# Altium schematic symbol library MB1180_mod.SCHLIB: 44 symbols
Pins are listed as number, name and electrical type; pins without a type are passive.

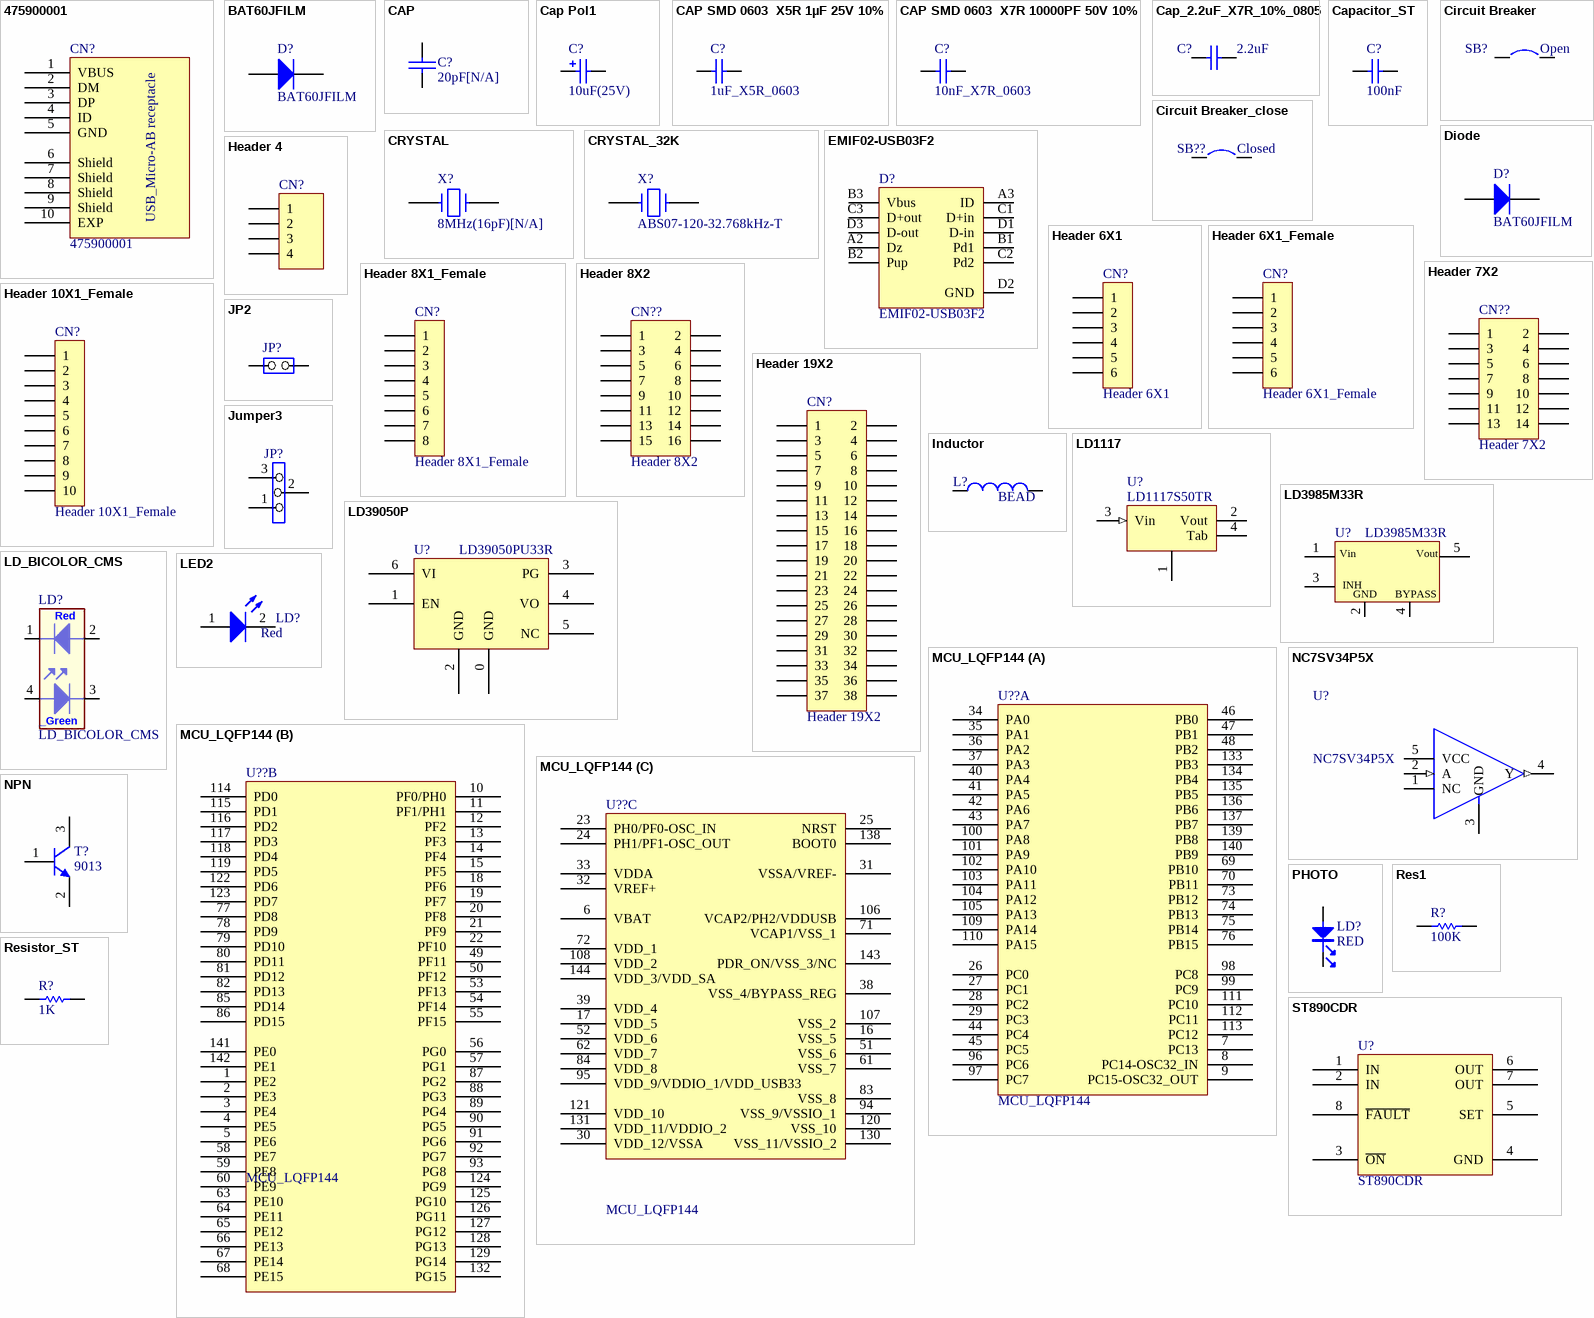
[diagram p0: symbols 475900001 to ST890CDR]

## 475900001
designator CN?
footprint Model Name (Footprint not found)
footprint MOLEX_47590001 (Footprint not found)
pins: 1 VBUS, 2 DM, 3 DP, 4 ID, 5 GND, 6 Shield, 7 Shield, 8 Shield, 9 Shield, 10 EXP
text: USB_Micro-AB receptacle

## BAT60JFILM
designator D?
Manuf_1: STM; Provided: ST; ECCN_US/EU: EAR99/NEC; Revision: July-2002: Re-released for DXP Platform.; Order: BAT60JFILM; Manuf_Part_1: BAT60JFILM; Distrib: ST
footprint DSO-C2/X3.3 (DO-214-AB/SMC; 2 C-Bend Leads; Body 7.9 x 5.9 mm, inc. leads (LxW))
simulation model DIODE (Diode)
signal-integrity model Diode
footprint SOD323/A
pins: 1 A, 2 K

## CAP
designator C?, comment 20pF[N/A]
Capacitor
footprint 0603 (Footprint not found)
footprint 0603C
pins: 1, 2
2 alternate drawings of the same symbol

## Cap Pol1
designator C?, comment 10uF(25V)
Polarized Capacitor (Radial); Published: 8-Jun-2000; Revision: July-2002: Re-released for DXP Platform.; Publisher: Altium Limited; Value: 10uF
simulation model CAP (Capacitor)
signal-integrity model C200M
footprint 3528 (Footprint not found)
footprint TAN-B
footprint TAN-A
pins: 1, 2

## CAP SMD 0603  X5R 1µF 25V 10%
designator C?, comment 1uF_X5R_0603
0603  X5R 1µF; Rated voltage: 25V; Tolerance: 10%; Manufacturer: *; Manufacturer P/N: *; Order code Farnell: 1288202RL; Value: 1µF; Power: *; Technology: X5R; Temperature  Factor: *; Temperature Max: +125°C; Temperature Min: -55°C; STS Code: *
footprint 0603C (Footprint not found)
3D model 0603_0_0000_R (PCB3D Model)
simulation model Capacitor
signal-integrity model Capacitor
pins: 1, 2

## CAP SMD 0603  X7R 10000PF 50V 10%
designator C?, comment 10nF_X7R_0603
0603  X7R 10NF; Order code RS: 2040779; Rated voltage: 50V; Tolerance: 10%; Order code Farnell: 7569548RL; Value: 10NF; Power: *; Technology: X7R; Temperature Factor: *; Temperature Min: -55°C; Temperature Max: +125°C; STS Code: *
footprint 0603C (Footprint not found)
3D model 0603_0_0000_R (PCB3D Model)
simulation model Capacitor
signal-integrity model Capacitor
pins: 1, 2

## Cap_2.2uF_X7R_10%_0805
designator C?, comment 2.2uF
Capacitor,2.2uF,16V, X7R,10%,0805,YAGEO; Manuf_Part_1: CC0805KKX7R7BB225; Revision: July-2002: Re-released for DXP Platform.; Value: 2.2uF; Order: CC0805KKX7R7BB225; Manuf_1: YAGEO
simulation model CAP (Capacitor)
signal-integrity model Cap
footprint 0805C
footprint TAN-A
pins: 1, 2

## Capacitor_ST
designator C?, comment 100nF
Capacitor 0402 / 0603 / 0805; Revision: July-2002: Re-released for DXP Platform.; Value: 100nF
simulation model CAP (Capacitor)
signal-integrity model Cap
footprint 0603C
footprint 0402C
footprint 0805C (Footprint not found)
pins: 1, 2

## Circuit Breaker
designator SB?, comment Open
Circuit Breaker; Published: 24-Mar-1999; Revision: July-2002: Re-released for DXP Platform.; Publisher: Altium Limited
footprint SPST-2 (Circuit Breaker; 2 Leads)
footprint JP2_SMD
footprint SB_0603 (Footprint not found)
pins: 1, 2

## Circuit Breaker_close
designator SB??, comment Closed
Circuit Breaker; Published: 24-Mar-1999; Revision: July-2002: Re-released for DXP Platform.; Publisher: Altium Limited
footprint SPST-2 (Circuit Breaker; 2 Leads)
footprint JP2_SMD
footprint SB_0603 (Footprint not found)
pins: 1, 2

## CRYSTAL
designator X?, comment 8MHz(16pF)[N/A]
Crystal
footprint XTAL1 (Footprint not found)
footprint XTAL_socket
pins: 1, 2
2 alternate drawings of the same symbol

## CRYSTAL_32K
designator X?, comment ABS07-120-32.768kHz-T
Crystal
footprint XTAL1 (Footprint not found)
footprint XTAL_2SM_3R2X1R5 (Footprint not found)
pins: 1, 2
2 alternate drawings of the same symbol

## Diode
designator D?, comment BAT60JFILM
Default Diode; Code - JEDEC: DO-214-AB; Ordered by: STM; ECCN_US/EU: EAR99/NEC; Published: 8-Jun-2000; Revision: July-2002: Re-released for DXP Platform.; Publisher: Altium Limited
footprint DSO-C2/X3.3 (DO-214-AB/SMC; 2 C-Bend Leads; Body 7.9 x 5.9 mm, inc. leads (LxW))
simulation model DIODE (Diode)
signal-integrity model Diode
footprint SOD-323
pins: 1 A, 2 K

## EMIF02-USB03F2
designator D?
footprint Flip Chip (Footprint not found)
footprint FlipChip(11)
footprint BGA11_0R5_1R57X2R07 (Footprint not found)
pins: A2 Dz, A3 ID, B1 Pd1, B2 Pup, B3 Vbus, C1 D+in, C2 Pd2, C3 D+out, D1 D-in, D2 GND, D3 D-out

## Header 4
designator CN?  (value not drawn)
Header, 4-Pin, Single row; Revision: 17-Jul-2002: Re-released for DXP Platform.; Publisher: Altium Limited
signal-integrity model Connector
footprint 1*4 (Footprint not found)
pins: 1, 2, 3, 4

## Header 6X1
designator CN?
Header, 6-Pin, Single row; LatestRevisionDate: 17-Jul-2002; LatestRevisionNote: Re-released for DXP Platform.; Publisher: Altium Limited
footprint HDR2X17 (Connector; Header; 17x2 Position)
signal-integrity model Connector
footprint 1*6P (Footprint not found)
pins: 1, 2, 3, 4, 5, 6

## Header 6X1_Female
designator CN?
Header, 6-Pin, Single row,female; LatestRevisionDate: 17-Jul-2002; LatestRevisionNote: Re-released for DXP Platform.; Publisher: Altium Limited
footprint HDR2X17 (Connector; Header; 17x2 Position)
signal-integrity model Connector
footprint 1*6P_FEMALE (Footprint not found)
pins: 1, 2, 3, 4, 5, 6

## Header 7X2
designator CN??
Header, 19-Pin, Dual row; Revision: 17-Jul-2002: Re-released for DXP Platform.; Publisher: Altium Limited
footprint 2*7P (Footprint not found)
signal-integrity model Connector
footprint HDR_2X26_2R54 (Footprint not found)
pins: 1, 2, 3, 4, 5, 6, 7, 8, 9, 10, 11, 12, 13, 14

## Header 8X1_Female
designator CN?
Header, 8-Pin, Single row,female; LatestRevisionDate: 17-Jul-2002; LatestRevisionNote: Re-released for DXP Platform.; Publisher: Altium Limited
footprint HDR2X17 (Connector; Header; 17x2 Position)
signal-integrity model Connector
footprint 1*8P_FEMALE (Footprint not found)
pins: 1, 2, 3, 4, 5, 6, 7, 8

## Header 8X2
designator CN??
Header, 19-Pin, Dual row; Revision: 17-Jul-2002: Re-released for DXP Platform.; Publisher: Altium Limited
footprint 2*8P (Footprint not found)
signal-integrity model Connector
footprint HDR_2X26_2R54 (Footprint not found)
pins: 1, 2, 3, 4, 5, 6, 7, 8, 9, 10, 11, 12, 13, 14, 15, 16

## Header 10X1_Female
designator CN?
Header, 10-Pin, Single row,female; LatestRevisionDate: 17-Jul-2002; LatestRevisionNote: Re-released for DXP Platform.; Publisher: Altium Limited
footprint HDR2X17 (Connector; Header; 17x2 Position)
signal-integrity model Connector
footprint 1*10P_FEMALE (Footprint not found)
pins: 1, 2, 3, 4, 5, 6, 7, 8, 9, 10

## Header 19X2
designator CN?
Header, 19-Pin, Dual row; Revision: 17-Jul-2002: Re-released for DXP Platform.; Publisher: Altium Limited
footprint 2*19P (Footprint not found)
signal-integrity model Connector
footprint HDR_2X26_2R54 (Footprint not found)
pins: 1, 2, 3, 4, 5, 6, 7, 8, 9, 10, 11, 12, 13, 14, 15, 16, 17, 18, 19, 20, 21, 22, 23, 24, 25, 26, 27, 28, 29, 30, 31, 32, 33, 34, 35, 36, 37, 38

## Inductor
designator L?, comment BEAD
Inductor; Value: 100uH; Published: 8-Jun-2000; Revision: July-2002: Re-released for DXP Platform.; Publisher: Altium Limited
footprint 0603 (Footprint not found)
footprint 0603C
footprint 0603L
pins: 1, 2

## JP2
designator JP?
footprint SIP2/2.54
pins: 1 COMMON, 2 NO

## Jumper3
designator JP?
footprint SIP3 (Footprint not found)
pins: 1, 2, 3

## LD1117
designator U?, comment LD1117S50TR
footprint SOT-223
pins: 1, 2 Vout (power), 3 Vin (in), 4 Tab (power)

## LD3985M33R
designator U?
Ultra low drop-low noise BiCMOS voltage, regulators low ESR capacitors compatible; Manuf_1: STM; Provided: ST; Ref St: 9176161; ECCN_US/EU: EAR99/NEC; Manuf_Part_1: LD3985M33R; Distrib: ST; Order: LD3985M33R
footprint SOT-23-5L
pins: 1 Vin, 2 GND, 3 CE, 4 BYPASS, 5 Vout
text: INH

## LD39050P
designator U?, comment LD39050PU33R
footprint DFN6
footprint DFN6(3X3)
pins: 0 GND, 1 EN, 2 GND, 3 PG, 4 VO, 5 NC, 6 VI

## LD_BICOLOR_CMS
designator LD?
Bicolor Led; Manuf_Part_1: HSMF-A201-A00J1; Manuf_1: Avago Technologies; Ref St: xxxxxx; cap_dec: ----; Distrib: RADIOSPARES; Footprint: HSMF-A201
footprint HSMF-A201
pins: 1, 2, 3, 4
text: Red; _Green

## LED2
designator LD?, comment Red
Typical RED, GREEN, YELLOW, AMBER GaAs LED; Published: 8-Jun-2000; Revision: July-2002: Re-released for DXP Platform.; Publisher: Altium Limited
footprint D0603 (Footprint not found)
footprint 0603D
pins: 1 A, 2 K

## MCU_LQFP144
designator U??
footprint TQFP144_M (Footprint not found)
footprint IC149-144-045-B5
footprint LQFP144 (Footprint not found)
footprint LQFP144_SKT (Footprint not found)
part A pins: 7 PC13, 8 PC14-OSC32_IN, 9 PC15-OSC32_OUT, 26 PC0, 27 PC1, 28 PC2, 29 PC3, 34 PA0, 35 PA1, 36 PA2, 37 PA3, 40 PA4, 41 PA5, 42 PA6, 43 PA7, 44 PC4, 45 PC5, 46 PB0, 47 PB1, 48 PB2, 69 PB10, 70 PB11, 73 PB12, 74 PB13, 75 PB14, 76 PB15, 96 PC6, 97 PC7, 98 PC8, 99 PC9, 100 PA8, 101 PA9, 102 PA10, 103 PA11, 104 PA12, 105 PA13, 109 PA14, 110 PA15, 111 PC10, 112 PC11, 113 PC12, 133 PB3, 134 PB4, 135 PB5, 136 PB6, 137 PB7, 139 PB8, 140 PB9
part B pins: 1 PE2, 2 PE3, 3 PE4, 4 PE5, 5 PE6, 10 PF0/PH0, 11 PF1/PH1, 12 PF2, 13 PF3, 14 PF4, 15 PF5, 18 PF6, 19 PF7, 20 PF8, 21 PF9, 22 PF10, 49 PF11, 50 PF12, 53 PF13, 54 PF14, 55 PF15, 56 PG0, 57 PG1, 58 PE7, 59 PE8, 60 PE9, 63 PE10, 64 PE11, 65 PE12, 66 PE13, 67 PE14, 68 PE15, 77 PD8, 78 PD9, 79 PD10, 80 PD11, 81 PD12, 82 PD13, 85 PD14, 86 PD15, 87 PG2, 88 PG3, 89 PG4, 90 PG5, 91 PG6, 92 PG7, 93 PG8, 114 PD0, 115 PD1, 116 PD2, 117 PD3, 118 PD4, 119 PD5, 122 PD6, 123 PD7, 124 PG9, 125 PG10, 126 PG11, 127 PG12, 128 PG13, 129 PG14, 132 PG15, 141 PE0, 142 PE1
part C pins: 6 VBAT, 16 VSS_5, 17 VDD_5, 23 PH0/PF0-OSC_IN, 24 PH1/PF1-OSC_OUT, 25 NRST, 30 VDD_12/VSSA, 31 VSSA/VREF-, 32 VREF+, 33 VDDA, 38 VSS_4/BYPASS_REG, 39 VDD_4, 51 VSS_6, 52 VDD_6, 61 VSS_7, 62 VDD_7, 71 VCAP1/VSS_1, 72 VDD_1, 83 VSS_8, 84 VDD_8, 94 VSS_9/VSSIO_1, 95 VDD_9/VDDIO_1/VDD_USB33, 106 VCAP2/PH2/VDDUSB, 107 VSS_2, 108 VDD_2, 120 VSS_10, 121 VDD_10, 130 VSS_11/VSSIO_2, 131 VDD_11/VDDIO_2, 138 BOOT0, 143 PDR_ON/VSS_3/NC, 144 VDD_3/VDD_SA

## NC7SV34P5X
designator U?
Single Buffer/Driver With Open-Drain Output; ComponentAvailability: Obsolete; Published: 8-Jun-2000; LatestRevisionDate: 13-Apr-2006; LatestRevisionNote: IPC-7351 Footprint Added.; DatasheetVersion: May-1986; PackageVersion: Jan-1998; PackageReference: D014; Publisher: Altium Limited; PackageDescription: 14-Pin Small Outline Integrated Circuit 1.27 mm Pitch; Code_IPC: SOIC127P600-14; ComponentLink1Description: Manufacturer Link; ComponentLink1URL: http://www.ti.com/; ComponentLink2Description: Datasheet; ComponentLink2URL: http://www-s.ti.com/sc/ds/sn74als34.pdf; ComponentLink3Description: Discontinuation Notice; ComponentLink3URL: http://focus.ti.com/docs/prod/folders/print/sn74als34.html
footprint SC70 (Footprint not found)
pins: 1 NC, 2 A (in), 3 GND, 4 Y (out), 5 VCC

## NPN
designator T?, comment 9013
NPN Bipolar Transistor; Code - JEDEC: TO-226-AA; Published: 8-Jun-2000; Revision: July-2002: Re-released for DXP Platform.; Publisher: Altium Limited
footprint BCY-W3 (TO, Flat Index; 3 In-Line, Axial Leads; Body Dia. 4.8mm)
simulation model NPN
signal-integrity model NPN
footprint SOT-23
footprint SOT23-213 (Footprint not found)
pins: 1 B, 2 E, 3 C

## PHOTO
designator LD?, comment RED
footprint D0603
footprint 0603D
pins: 1, 2
2 alternate drawings of the same symbol

## Res1
designator R?, comment 100K
Resistor; Value: 1K; Ordered by: Subcon; Published: 8-Jun-2000; Revision: July-2002: Re-released for DXP Platform.; Publisher: Altium Limited
footprint AXIAL-0.3
footprint 0603
footprint 0603R
footprint 0402R
pins: 1, 2
2 alternate drawings of the same symbol

## Resistor_ST
designator R?, comment 1K
Resistor 0402 / 0603 / 0805; Value: 10K
footprint 0402R
footprint 0603R
footprint 0805R (Footprint not found)
footprint 0603R-GS
pins: 1, 2

## ST890CDR
designator U?
footprint SOIC8_1R27_4R9X6 (Footprint not found)
pins: 1 IN, 2 IN, 3 ~{ON}, 4 GND, 5 SET, 6 OUT, 7 OUT, 8 ~{FAULT}

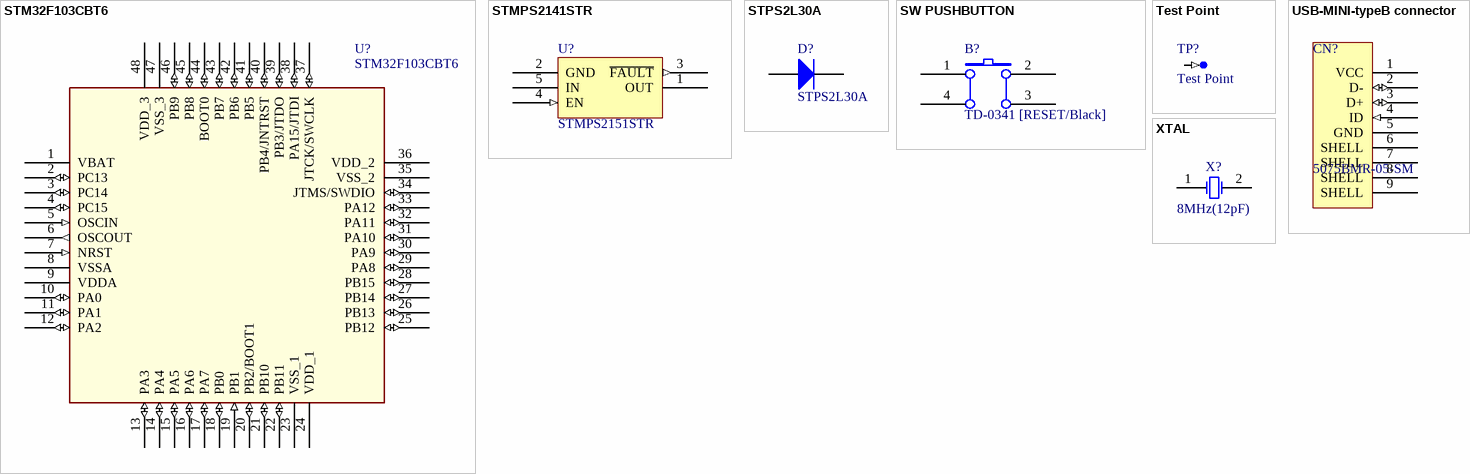
[diagram p1: symbols STM32F103CBT6 to XTAL]

## STM32F103CBT6
designator U?
Medium-density performance line ARM-based 32-bit MCU with 64KB Flash; Manuf_Part_1: STM32F103C8T6; Manuf_1: STM; Ref St: 9175981; Provided: ST; ECCN_US/EU: 3A991A2/NEC; Footprint: QFP48 7X7; Distrib: ST; Order: STM32F103C8T6
footprint LQFP48_0R5_7x7 (Low & medium-density value line, advanced ARM-based 32-bit MCU)
pins: 1 VBAT (power), 2 PC13 (io), 3 PC14 (io), 4 PC15 (io), 5 OSCIN (in), 6 OSCOUT (out), 7 NRST (in), 8 VSSA (power), 9 VDDA (power), 10 PA0 (io), 11 PA1 (io), 12 PA2 (io), 13 PA3 (io), 14 PA4 (io), 15 PA5 (io), 16 PA6 (io), 17 PA7 (io), 18 PB0 (io), 19 PB1 (in), 20 PB2/BOOT1 (io), 21 PB10 (io), 22 PB11 (io), 23 VSS_1 (power), 24 VDD_1 (power), 25 PB12 (io), 26 PB13 (io), 27 PB14 (io), 28 PB15 (io), 29 PA8 (io), 30 PA9 (io), 31 PA10 (io), 32 PA11 (io), 33 PA12 (io), 34 JTMS/SWDIO (io), 35 VSS_2 (power), 36 VDD_2 (power), 37 JTCK/SWCLK (io), 38 PA15/JTDI (io), 39 PB3/JTDO (io), 40 PB4/JNTRST (io), 41 PB5 (io), 42 PB6 (io), 43 PB7 (io), 44 BOOT0 (io), 45 PB8 (io), 46 PB9 (io), 47 VSS_3 (power), 48 VDD_3 (power)

## STMPS2141STR
designator U?, comment STMPS2151STR
footprint SOT23-5L (Footprint not found)
footprint SOT-23-5L
footprint SOT23-5 (Footprint not found)
pins: 1 OUT, 2 GND, 3 ~{FAULT} (out), 4 EN (in), 5 IN

## STPS2L30A
designator D?
Manuf_1: STM; Provided: ST; Order: BAT60JFILM; ECCN_US/EU: EAR99/NEC; Revision: July-2002: Re-released for DXP Platform.; Manuf_Part_1: BAT60JFILM; Distrib: ST
footprint SMA (Footprint not found)
pins: 1 A, 2 K

## SW PUSHBUTTON
designator B?, comment TD-0341 [RESET/Black]
SE PUSHBUTTON
footprint PB (Footprint not found)
footprint PB10
footprint BP1CMS
pins: 1 A0, 2 B0, 3 B1, 4 A1

## Test Point
designator TP?
pins: 1 (in)

## USB-MINI-typeB connector
designator CN?, comment 5075BMR-05-SM
USB-MINI-typeB connector; Manuf_Part_1: 5075BMR-05-SM; Order: 5075BMR-05-SM; ECCN: ????
footprint USB-MINI-B-SMD
footprint USB-B
pins: 1 VCC (power), 2 D- (io), 3 D+ (io), 4 ID (in), 5 GND (power), 6 SHELL (power), 7 SHELL (power), 8 SHELL (power), 9 SHELL (power)

## XTAL
designator X?, comment 8MHz(12pF)
Crystal Oscillator; Published: 8-Jun-2000; LatestRevisionDate: 17-Jul-2002; LatestRevisionNote: Re-released for DXP Platform.; PackageReference: R38; Publisher: Altium Limited
footprint R38
footprint XTAL1
pins: 1 OSC1, 2 OSC2
2 alternate drawings of the same symbol